# EAGLE library part LCD (library PPMK_MSP430FR6989)
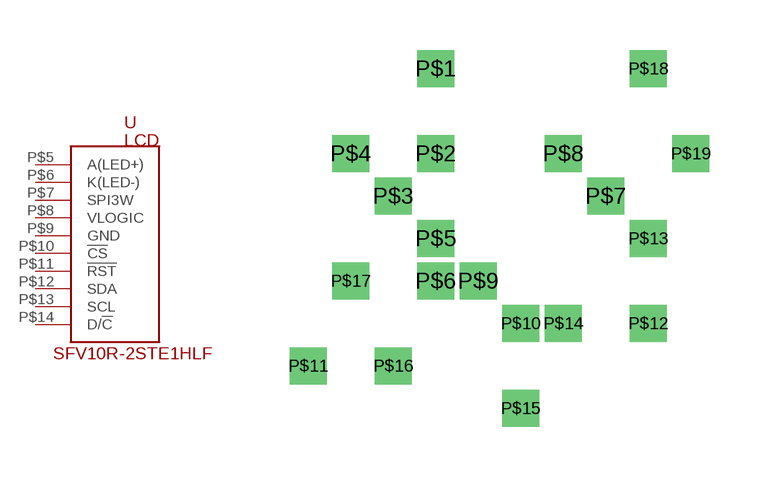
[diagram p3: symbol with the pads of LCD; footprint LCD]

Designator prefix -

## LCD  [LCD]
P$5  A(LED+)
P$6  K(LED-)
P$7  SPI3W
P$8  VLOGIC
P$9  GND
P$10  !CS
P$11  !RST
P$12  SDA
P$13  SCL
P$14  D/!C

## Footprint LCD (pad centres in mm)
drill 0.6 square: P$1 -13.97,1.27; P$2 -13.97,-1.27; P$3 -15.24,-2.54; P$4 -16.51,-1.27; P$5 -13.97,-3.81; P$6 -13.97,-5.08; P$7 -8.89,-2.54; P$8 -10.16,-1.27; P$9 -12.7,-5.08; P$10 -11.43,-6.35; P$11 -17.78,-7.62; P$12 -7.62,-6.35; P$13 -7.62,-3.81; P$14 -10.16,-6.35; P$15 -11.43,-8.89; P$16 -15.24,-7.62; P$17 -16.51,-5.08; P$18 -7.62,1.27; P$19 -6.35,-1.27